# Altium footprint library TXB0108.PcbLib: 1 footprints
Each footprint in its own frame and in the unit in brackets; x right, y up, seen from the top. Pads: shape width x height; smd on the part's side, far side on the other; paste and mask are expansions set on the pad; w line width, h text height; cw(c..) or ccw(c..) is an arc to the next point about the centre after c.
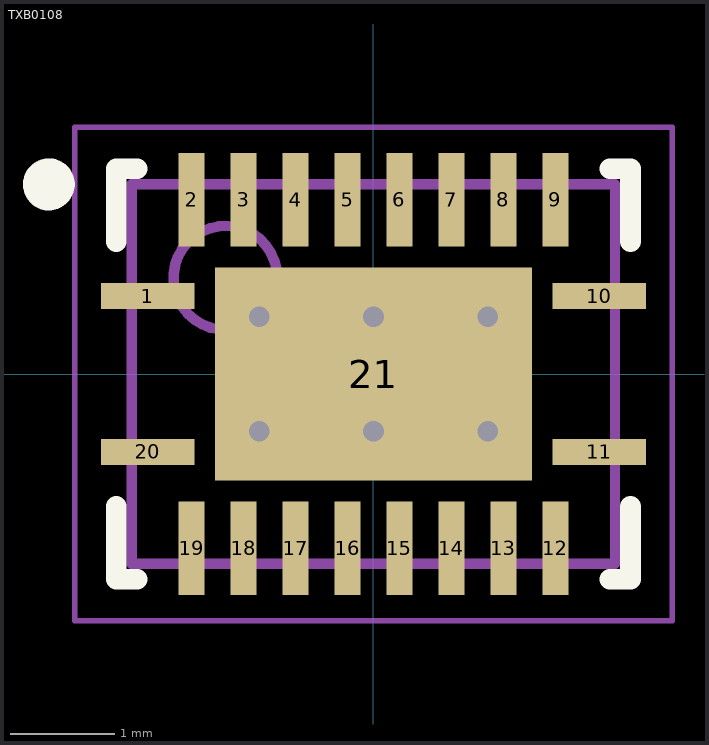
[diagram p0: the footprint, top view; thin cyan lines are the x and y axes]

## TXB0108 [mm] "Translation - Voltage Levels 8-Bit Bi-directional V-Level Translator"
pads (21):
  rect 0.9x0.25 smd: 1(-2.175,0.75) 10(2.175,0.75) 11(2.175,-0.75) 20(-2.175,-0.75)
  rect 0.25x0.9 smd: 2(-1.75,1.675) 3(-1.25,1.675) 4(-0.75,1.675) 5(-0.25,1.675) 6(0.25,1.675) 7(0.75,1.675) 8(1.25,1.675) 9(1.75,1.675) 12(1.75,-1.675) 13(1.25,-1.675) 14(0.75,-1.675) 15(0.25,-1.675) 16(-0.25,-1.675) 17(-0.75,-1.675) 18(-1.25,-1.675) 19(-1.75,-1.675)
  rect 3.05x2.05 smd: 21(0,0)
via 1.1,-0.55 diameter 0.5 hole 0.2
via 0,-0.55 diameter 0.5 hole 0.2
via -1.1,-0.55 diameter 0.5 hole 0.2
via 1.1,0.55 diameter 0.5 hole 0.2
via 0,0.55 diameter 0.5 hole 0.2
via -1.1,0.55 diameter 0.5 hole 0.2
Top Overlay:
  circle w0.25: c-3.125,1.825 r0.125
  lines w0.2: -2.475,-1.275 -2.475,-1.975 -2.275,-1.975 ; -2.475,1.275 -2.475,1.975 -2.275,1.975 ; 2.275,-1.975 2.475,-1.975 2.475,-1.275 ; 2.275,1.975 2.475,1.975 2.475,1.275
Mechanical 13:
  circle w0.1: c-1.425,0.925 r0.5
  lines w0.1: -2.325,-1.825 2.325,-1.825 2.325,1.825 -2.325,1.825 -2.325,-1.825
Mechanical 15:
  lines w0.05: -2.875,-2.375 2.875,-2.375 2.875,2.375 -2.875,2.375 -2.875,-2.375
  lines w0.1: -0.5,0 0.5,0 ; 0,-0.5 0,0.5
3D body "QFN50P450X350X100_HS-21N.step": height 1, standoff 0, extent -2.375,-1.875 2.375,1.875